# EAGLE library part EPM7064 (library altera_pga84)
EPM7064 MAX 7000 family
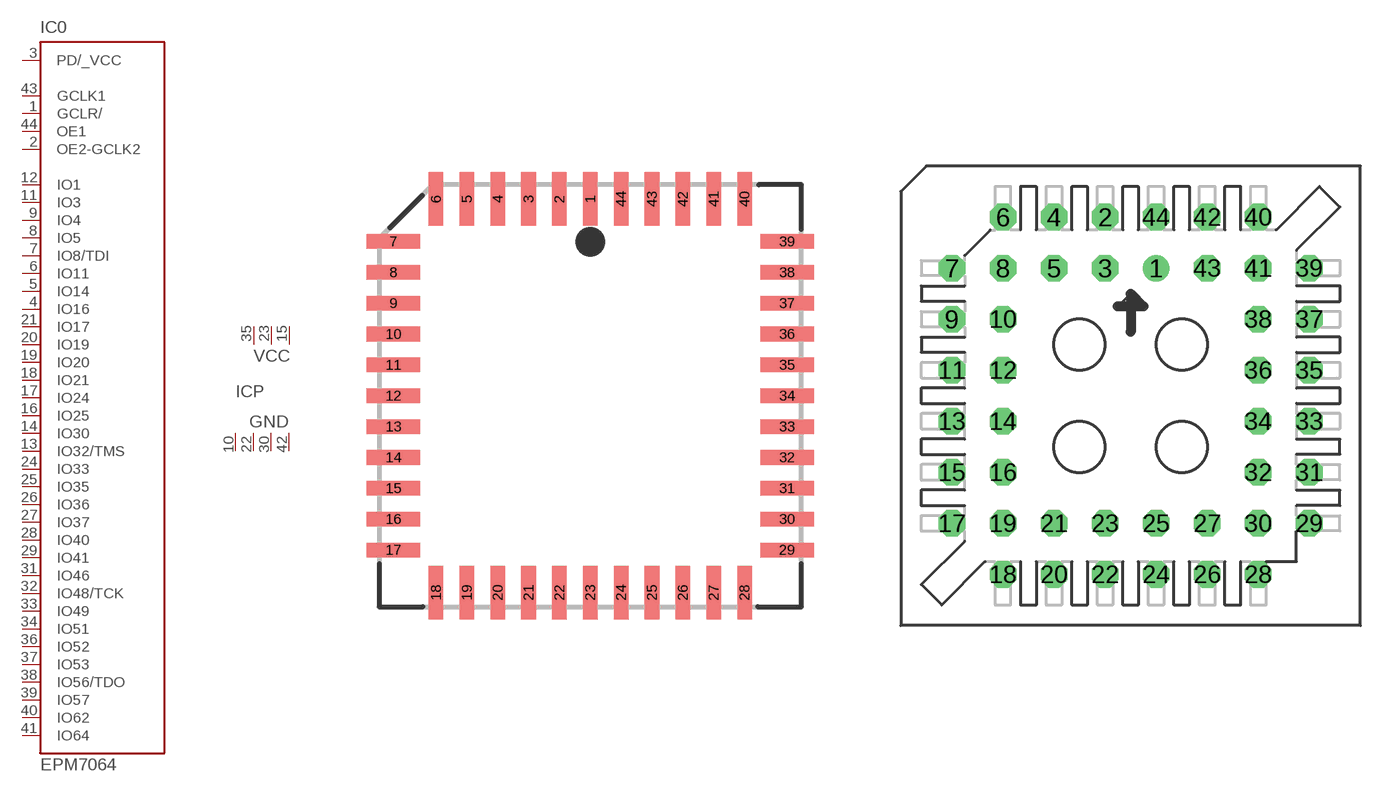
[diagram p1: symbol with the pads of PLCC44; footprints PLCC44, PLCC-S44]

Designator prefix IC; gates 0=7064-44 P=PWR3-4

## EPM7064J44 (OC_FARNELL: unknown; OC_NEWARK: unknown)  [PLCC44]
1  0:GCLR/  in
2  0:OE2-GCLK2  in
3  0:PD/_VCC  pas
4  0:IO16
5  0:IO14
6  0:IO11
7  0:IO8/TDI
8  0:IO5
9  0:IO4
10  P:GND  pwr
11  0:IO3
12  0:IO1
13  0:IO32/TMS
14  0:IO30
15  P:VCC  pwr
16  0:IO25
17  0:IO24
18  0:IO21
19  0:IO20
20  0:IO19
21  0:IO17
22  P:GND  pwr
23  P:VCC  pwr
24  0:IO33
25  0:IO35
26  0:IO36
27  0:IO37
28  0:IO40
29  0:IO41
30  P:GND  pwr
31  0:IO46
32  0:IO48/TCK
33  0:IO49
34  0:IO51
35  P:VCC  pwr
36  0:IO52
37  0:IO53
38  0:IO56/TDO
39  0:IO57
40  0:IO62
41  0:IO64
42  P:GND  pwr
43  0:GCLK1  in
44  0:OE1  in

## EPM7064S44 (MPN: EPM7064SLC44-10N; OC_FARNELL: 1549449; OC_NEWARK: 51R0526)  [PLCC-S44]
Pads as for PLCC44

## EPM7064T44 (MPN: EPM7064TC44-15; OC_FARNELL: unknown; OC_NEWARK: 51R9653)  [TQFP44]
1  0:IO8/TDI
2  0:IO5
3  0:IO4
4  P:GND  pwr
5  0:IO3
6  0:IO1
7  0:IO32/TMS
8  0:IO30
9  0:PD/_VCC  pas
10  0:IO25
11  0:IO24
12  0:IO21
13  0:IO20
14  0:IO19
15  0:IO17
16  P:GND  pwr
17  P:VCC  pwr
18  0:IO33
19  0:IO35
20  0:IO36
21  0:IO37
22  0:IO40
23  0:IO41
24  P:GND  pwr
25  0:IO46
26  0:IO48/TCK
27  0:IO49
28  0:IO51
29  P:VCC  pwr
30  0:IO52
31  0:IO53
32  0:IO56/TDO
33  0:IO57
34  0:IO62
35  0:IO64
36  P:GND  pwr
37  0:GCLK1  in
38  0:OE1  in
39  0:GCLR/  in
40  0:OE2-GCLK2  in
41  P:VCC  pwr
42  0:IO16
43  0:IO14
44  0:IO11

## Footprint PLCC44 (pad centres in mm)
Plastic J-Lead Chip Carrier
smd 0.6 x 2.2: 1 0,8.1; 2 -1.27,8.1; 3 -2.54,8.1; 4 -3.81,8.1; 5 -5.08,8.1; 6 -6.35,8.1; 18 -6.35,-8.1; 19 -5.08,-8.1; 20 -3.81,-8.1; 21 -2.54,-8.1; 22 -1.27,-8.1; 23 0,-8.1; 24 1.27,-8.1; 25 2.54,-8.1; 26 3.81,-8.1; 27 5.08,-8.1; 28 6.35,-8.1; 40 6.35,8.1; 41 5.08,8.1; 42 3.81,8.1; 43 2.54,8.1; 44 1.27,8.1
smd 2.2 x 0.6: 7 -8.1,6.35; 8 -8.1,5.08; 9 -8.1,3.81; 10 -8.1,2.54; 11 -8.1,1.27; 12 -8.1,0; 13 -8.1,-1.27; 14 -8.1,-2.54; 15 -8.1,-3.81; 16 -8.1,-5.08; 17 -8.1,-6.35; 29 8.1,-6.35; 30 8.1,-5.08; 31 8.1,-3.81; 32 8.1,-2.54; 33 8.1,-1.27; 34 8.1,0; 35 8.1,1.27; 36 8.1,2.54; 37 8.1,3.81; 38 8.1,5.08; 39 8.1,6.35

## Footprint PLCC-S44 (pad centres in mm)
Plastic Leaded Chip Carrier Socked
drill 0.813: 1 1.27,6.35
drill 0.813 octagon: 2 -1.27,8.89; 3 -1.27,6.35; 4 -3.81,8.89; 5 -3.81,6.35; 6 -6.35,8.89; 7 -8.89,6.35; 8 -6.35,6.35; 9 -8.89,3.81; 10 -6.35,3.81; 11 -8.89,1.27; 12 -6.35,1.27; 13 -8.89,-1.27; 14 -6.35,-1.27; 15 -8.89,-3.81; 16 -6.35,-3.81; 17 -8.89,-6.35; 18 -6.35,-8.89; 19 -6.35,-6.35; 20 -3.81,-8.89; 21 -3.81,-6.35; 22 -1.27,-8.89; 23 -1.27,-6.35; 24 1.27,-8.89; 25 1.27,-6.35; 26 3.81,-8.89; 27 3.81,-6.35; 28 6.35,-8.89; 29 8.89,-6.35; 30 6.35,-6.35; 31 8.89,-3.81; 32 6.35,-3.81; 33 8.89,-1.27; 34 6.35,-1.27; 35 8.89,1.27; 36 6.35,1.27; 37 8.89,3.81; 38 6.35,3.81; 39 8.89,6.35; 40 6.35,8.89; 41 6.35,6.35; 42 3.81,8.89; 43 3.81,6.35; 44 1.27,8.89

## Footprint TQFP44 (pad centres in mm)
Plastic Thin Quad Flat Pack
smd 1.5 x 0.5: 1 -5.8,4; 2 -5.8,3.2; 3 -5.8,2.4; 4 -5.8,1.6; 5 -5.8,0.8; 6 -5.8,0; 7 -5.8,-0.8; 8 -5.8,-1.6; 9 -5.8,-2.4; 10 -5.8,-3.2; 11 -5.8,-4; 23 5.8,-4; 24 5.8,-3.2; 25 5.8,-2.4; 26 5.8,-1.6; 27 5.8,-0.8; 28 5.8,0; 29 5.8,0.8; 30 5.8,1.6; 31 5.8,2.4; 32 5.8,3.2; 33 5.8,4
smd 0.5 x 1.5: 12 -4,-5.8; 13 -3.2,-5.8; 14 -2.4,-5.8; 15 -1.6,-5.8; 16 -0.8,-5.8; 17 0,-5.8; 18 0.8,-5.8; 19 1.6,-5.8; 20 2.4,-5.8; 21 3.2,-5.8; 22 4,-5.8; 34 4,5.8; 35 3.2,5.8; 36 2.4,5.8; 37 1.6,5.8; 38 0.8,5.8; 39 0,5.8; 40 -0.8,5.8; 41 -1.6,5.8; 42 -2.4,5.8; 43 -3.2,5.8; 44 -4,5.8